# Altium footprint library CAP SMD.PcbLib: 9 footprints
Each footprint in its own frame and in the unit in brackets; x right, y up, seen from the top. Pads: shape width x height; smd on the part's side, far side on the other; paste and mask are expansions set on the pad; w line width, h text height; cw(c..) or ccw(c..) is an arc to the next point about the centre after c.
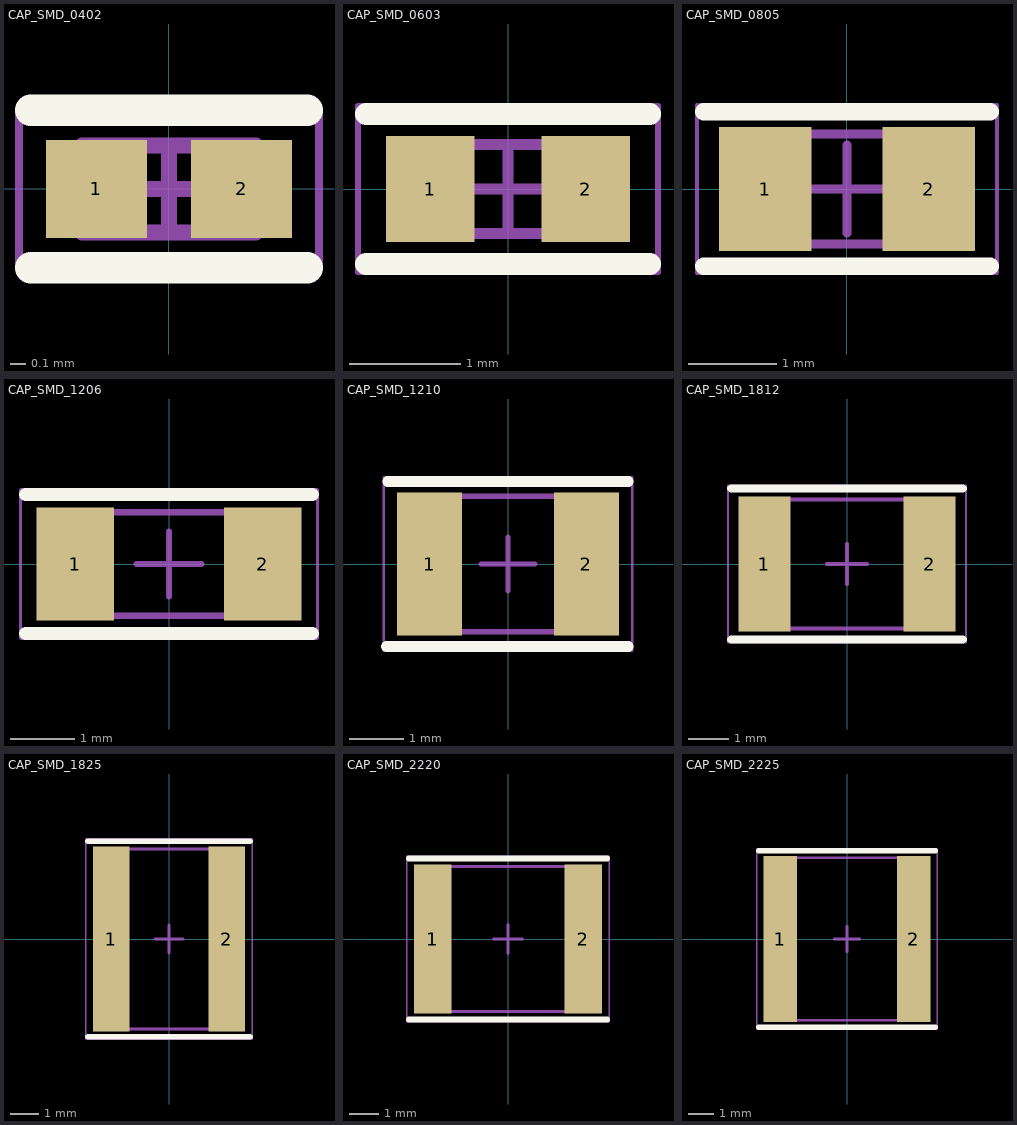
[diagram p0: the footprints below, top view; thin cyan lines are the x and y axes]

## CAP_SMD_0402 [mm]
height 0.55
pads (2):
  rect 0.64x0.62 smd: 1(-0.46,0) 2(0.46,0)
Top Overlay:
  lines w0.2: -0.875,-0.5 0.875,-0.5 ; -0.875,0.5 0.875,0.5
Assembly:
  lines w0.1: -0.55,-0.275 0.55,-0.275 0.55,0.275 -0.55,0.275 -0.55,-0.275
Mechanical 15:
  lines w0.05: -0.95,-0.5 0.95,-0.5 0.95,0.5 -0.95,0.5 -0.95,-0.5
  lines w0.1: -0.275,0 0.275,0 ; 0,-0.275 0,0.275
3D body "CAP_SMD_0402.step": height 0.55, standoff 0, extent -0.55,-0.275 0.55,0.275

## CAP_SMD_0603 [mm]
height 0.9
pads (2):
  rect 0.8x0.95 smd: 1(-0.7,0) 2(0.7,0)
Top Overlay:
  lines w0.2: -1.275,-0.675 1.275,-0.675 ; -1.275,0.675 1.275,0.675
Assembly:
  lines w0.1: -0.805,-0.4 0.805,-0.4 0.805,0.4 -0.805,0.4 -0.805,-0.4
Mechanical 15:
  lines w0.05: -1.35,-0.75 1.35,-0.75 1.35,0.75 -1.35,0.75 -1.35,-0.75
  lines w0.1: -0.4,0 0.4,0 ; 0,-0.4 0,0.4
3D body "CAP_SMD_0603.step": height 0.9, standoff 0, extent -0.805,-0.4 0.805,0.4

## CAP_SMD_0805 [mm]
height 1.3
pads (2):
  rect 1.05x1.4 smd: 1(-0.925,0) 2(0.925,0)
Top Overlay:
  lines w0.2: -1.625,-0.875 1.625,-0.875 ; -1.625,0.875 1.625,0.875
Assembly:
  lines w0.1: -1,-0.625 1,-0.625 1,0.625 -1,0.625 -1,-0.625
Mechanical 15:
  lines w0.05: -1.7,-0.95 1.7,-0.95 1.7,0.95 -1.7,0.95 -1.7,-0.95
  lines w0.1: -0.5,0 0.5,0 ; 0,-0.5 0,0.5
3D body "CAP_SMD_0805.step": height 1.3, standoff 0, extent -1,-0.625 1,0.625

## CAP_SMD_1206 [mm]
height 1.5
pads (2):
  rect 1.2x1.75 smd: 1(-1.45,0) 2(1.45,0)
Top Overlay:
  lines w0.2: -2.225,-1.075 2.225,-1.075 ; -2.225,1.075 2.225,1.075
Assembly:
  lines w0.1: -1.6,-0.8 1.6,-0.8 1.6,0.8 -1.6,0.8 -1.6,-0.8
Mechanical 15:
  lines w0.05: -2.3,-1.15 2.3,-1.15 2.3,1.15 -2.3,1.15 -2.3,-1.15
  lines w0.1: -0.5,0 0.5,0 ; 0,-0.5 0,0.5
3D body "CAP_SMD_1206.step": height 1.5, standoff 0, extent -1.6,-0.8 1.6,0.8

## CAP_SMD_1210 [mm]
height 1.7
pads (2):
  rect 1.2x2.65 smd: 1(-1.45,0) 2(1.45,0)
Top Overlay:
  lines w0.2: -2.25,-1.525 2.225,-1.525 ; -2.225,1.525 2.225,1.525
Assembly:
  lines w0.1: -1.6,-1.25 1.6,-1.25 1.6,1.25 -1.6,1.25 -1.6,-1.25
Mechanical 15:
  lines w0.05: -2.3,-1.6 2.3,-1.6 2.3,1.6 -2.3,1.6 -2.3,-1.6
  lines w0.1: -0.5,0 0.5,0 ; 0,-0.5 0,0.5
3D body "CAP_SMD_1210.step": height 1.7, standoff 0, extent -1.6,-1.25 1.6,1.25

## CAP_SMD_1812 [mm]
height 1.7
pads (2):
  rect 1.3x3.35 smd: 1(-2.05,0) 2(2.05,0)
Top Overlay:
  lines w0.2: -2.875,-1.875 2.875,-1.875 ; -2.875,1.875 2.875,1.875
Assembly:
  lines w0.1: -2.25,-1.6 2.25,-1.6 2.25,1.6 -2.25,1.6 -2.25,-1.6
Mechanical 15:
  lines w0.05: -2.95,-1.95 2.95,-1.95 2.95,1.95 -2.95,1.95 -2.95,-1.95
  lines w0.1: -0.5,0 0.5,0 ; 0,-0.5 0,0.5
3D body "CAP_SMD_1812.step": height 1.7, standoff 0, extent -2.25,-1.6 2.25,1.6

## CAP_SMD_1825 [mm]
height 1.7
pads (2):
  rect 1.3x6.55 smd: 1(-2.05,0) 2(2.05,0)
Top Overlay:
  lines w0.2: -2.875,-3.475 2.875,-3.475 ; -2.875,3.475 2.875,3.475
Assembly:
  lines w0.1: -2.25,-3.2 -2.25,3.2 2.25,3.2 2.25,-3.2 -2.25,-3.2
Mechanical 15:
  lines w0.05: -2.95,-3.55 -2.95,3.55 2.95,3.55 2.95,-3.55 -2.95,-3.55
  lines w0.1: -0.5,0 0.5,0 ; 0,-0.5 0,0.5
3D body "CAP_SMD_1825.step": height 1.7, standoff 0, extent -2.25,-3.2 2.25,3.2

## CAP_SMD_2220 [mm]
height 1.8
pads (2):
  rect 1.3x5.15 smd: 1(-2.6,0) 2(2.6,0)
Top Overlay:
  lines w0.2: -3.425,-2.775 3.425,-2.775 ; -3.425,2.775 3.425,2.775
Assembly:
  lines w0.1: -2.8,-2.5 -2.8,2.5 2.8,2.5 2.8,-2.5 -2.8,-2.5
Mechanical 15:
  lines w0.05: -3.5,-2.85 -3.5,2.85 3.5,2.85 3.5,-2.85 -3.5,-2.85
  lines w0.1: -0.5,0 0.5,0 ; 0,-0.5 0,0.5
3D body "CAP_SMD_2220.step": height 1.8, standoff 0, extent -2.8,-2.5 2.8,2.5

## CAP_SMD_2225 [mm]
height 2
pads (2):
  rect 1.3x6.45 smd: 1(-2.6,0) 2(2.6,0)
Top Overlay:
  lines w0.2: -3.425,-3.425 3.425,-3.425 ; -3.425,3.425 3.425,3.425
Assembly:
  lines w0.1: -2.8,-3.15 -2.8,3.15 2.8,3.15 2.8,-3.15 -2.8,-3.15
Mechanical 15:
  lines w0.05: -3.5,-3.5 -3.5,3.5 3.5,3.5 3.5,-3.5 -3.5,-3.5
  lines w0.1: -0.5,0 0.5,0 ; 0,-0.5 0,0.5
3D body "CAP_SMD_2225.step": height 2, standoff 0, extent -2.8,-3.15 2.8,3.15